# Altium schematic symbol library ETX-X3-LVDS.Schlib: 1 symbol
Pins are listed as number, name and electrical type; pins without a type are passive.

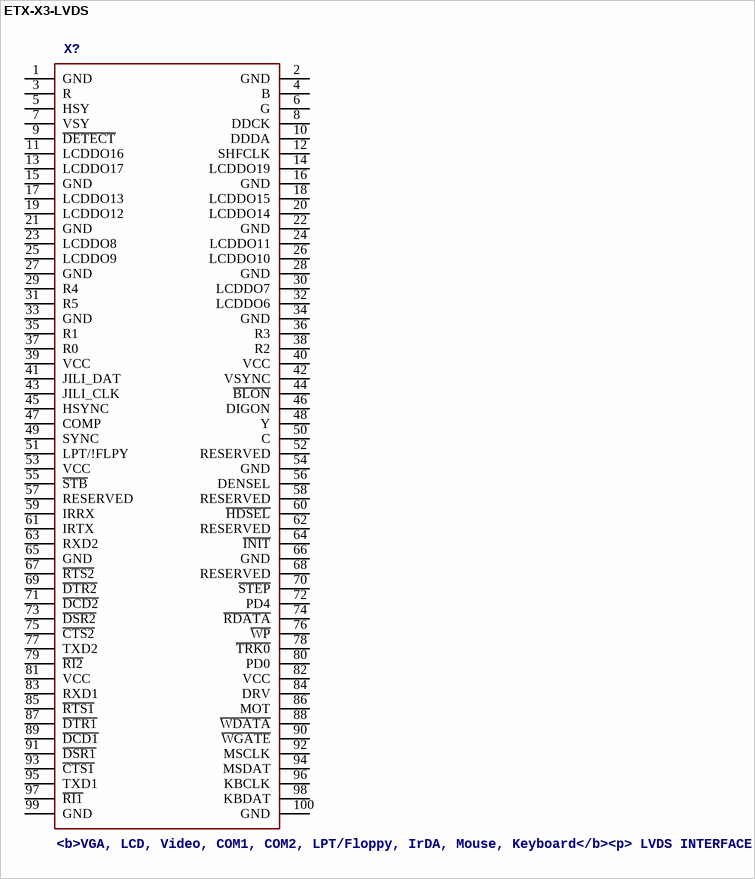
[diagram p0: symbol ETX-X3-LVDS]

## ETX-X3-LVDS
designator X?, comment <b>VGA, LCD, Video, COM1, COM2, LPT/Floppy, IrDA, Mouse, Keyboard</b><p> / LVDS INTERFACE PINOUT, PARALLEL PORT MODE PINOUT<br> / ETX Board Connector 100 Pos.<br> / Source: www.kontron.com/techlib/whitepapers/etx_spec.pdf
footprint FX8-100S-SV
pins: 1 GND (power), 2 GND (power), 3 R, 4 B, 5 HSY, 6 G, 7 VSY, 8 DDCK, 9 ~{DETECT}, 10 DDDA, 11 LCDDO16, 12 SHFCLK, 13 LCDDO17, 14 LCDDO19, 15 GND (power), 16 GND (power), 17 LCDDO13, 18 LCDDO15, 19 LCDDO12, 20 LCDDO14, 21 GND (power), 22 GND (power), 23 LCDDO8, 24 LCDDO11, 25 LCDDO9, 26 LCDDO10, 27 GND (power), 28 GND (power), 29 R4, 30 LCDDO7, 31 R5, 32 LCDDO6, 33 GND (power), 34 GND (power), 35 R1, 36 R3, 37 R0, 38 R2, 39 VCC (power), 40 VCC (power), 41 JILI_DAT, 42 VSYNC, 43 JILI_CLK, 44 ~{BLON}, 45 HSYNC, 46 DIGON, 47 COMP, 48 Y, 49 SYNC, 50 C, 51 LPT/!FLPY, 52 RESERVED, 53 VCC (power), 54 GND (power), 55 ~{STB}, 56 DENSEL, 57 RESERVED, 58 RESERVED, 59 IRRX, 60 ~{HDSEL}, 61 IRTX, 62 RESERVED, 63 RXD2, 64 ~{INIT}, 65 GND (power), 66 GND (power), 67 ~{RTS2}, 68 RESERVED, 69 ~{DTR2}, 70 ~{STEP}, 71 ~{DCD2}, 72 PD4, 73 ~{DSR2}, 74 ~{RDATA}, 75 ~{CTS2}, 76 ~{WP}, 77 TXD2, 78 ~{TRK0}, 79 ~{RI2}, 80 PD0, 81 VCC (power), 82 VCC (power), 83 RXD1, 84 DRV, 85 ~{RTS1}, 86 MOT, 87 ~{DTR1}, 88 ~{WDATA}, 89 ~{DCD1}, 90 ~{WGATE}, 91 ~{DSR1}, 92 MSCLK, 93 ~{CTS1}, 94 MSDAT, 95 TXD1, 96 KBCLK, 97 ~{RI1}, 98 KBDAT, 99 GND (power), 100 GND (power)